# EAGLE library part TD62308 (library TD62308)
DRIVER ARRAY
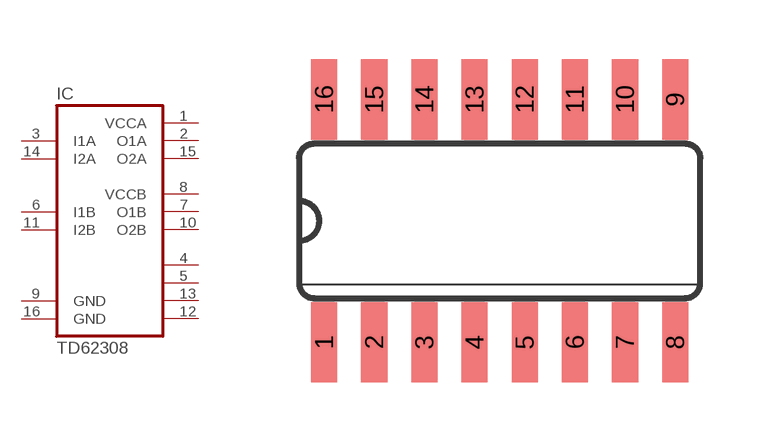
[diagram p0: symbol with the pads of SO16; footprint SO16]

Designator prefix IC

## TD62308AF  [SO16]
1  VCCA  oc
2  O1A  oc
3  I1A  in
4    pas
5    pas
6  I1B  in
7  O1B  oc
8  VCCB  oc
9  GND  oc
10  O2B  oc
11  I2B  in
12    pas
13    pas
14  I2A  in
15  O2A  oc
16  GND  oc

## Footprint SO16 (pad centres in mm)
Small Outline Package
smd 0.66 x 2.032: 1 -4.445,-3.073; 2 -3.175,-3.073; 3 -1.905,-3.073; 4 -0.635,-3.073; 5 0.635,-3.073; 6 1.905,-3.073; 7 3.175,-3.073; 8 4.445,-3.073; 9 4.445,3.073; 10 3.175,3.073; 11 1.905,3.073; 12 0.635,3.073; 13 -0.635,3.073; 14 -1.905,3.073; 15 -3.175,3.073; 16 -4.445,3.073